# EAGLE library part XC9147A33CER-G (library XC9147A33CER-G)
Highly functionality, 1.4A Step-up DC/DC Converters, USP-6C Source: Datasheet <https://www.torex.co.jp/file/xc9147/xc9147.pdf>
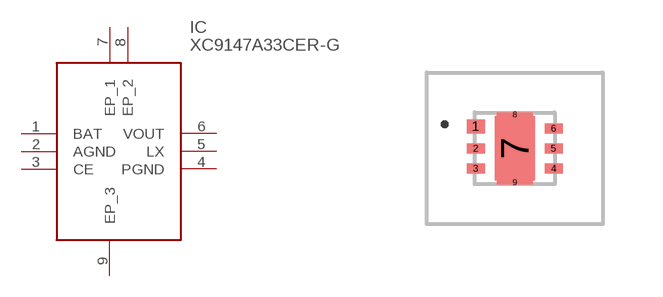
[diagram p0: symbol with the pads of XC9147/8_USP-6C; footprint XC9147/8_USP-6C]

Designator prefix IC

## XC9147A33CER-G (Description: Highly functionality, 1.4A Step-up DC/DC Converters, USP-6C; Height: 0.6mm; Manufacturer_Name: Torex; Manufacturer_Part_Number: XC9147A33CER-G)  [XC9147/8_USP-6C]
1  BAT
2  AGND
3  CE
4  PGND
5  LX
6  VOUT
7  EP_1
8  EP_2
9  EP_3

## Footprint XC9147/8_USP-6C (pad centres in mm)
XC9147/8_USP-6C
smd 0.45 x 0.35: 1 -0.975,0.55
smd 0.45 x 0.25: 2 -0.975,0; 3 -0.975,-0.5; 4 0.975,-0.5; 5 0.975,0; 6 0.975,0.5
smd 1 x 1.6: 7 0,0
smd 0.9 x 0.1: 8 0,0.85; 9 0,-0.85